# Altium footprint library Connectors.PcbLib: 21 footprints (part 1 of 2)
Each footprint in its own frame and in the unit in brackets; x right, y up, seen from the top. Pads: shape width x height; smd on the part's side, far side on the other; paste and mask are expansions set on the pad; w line width, h text height; cw(c..) or ccw(c..) is an arc to the next point about the centre after c.
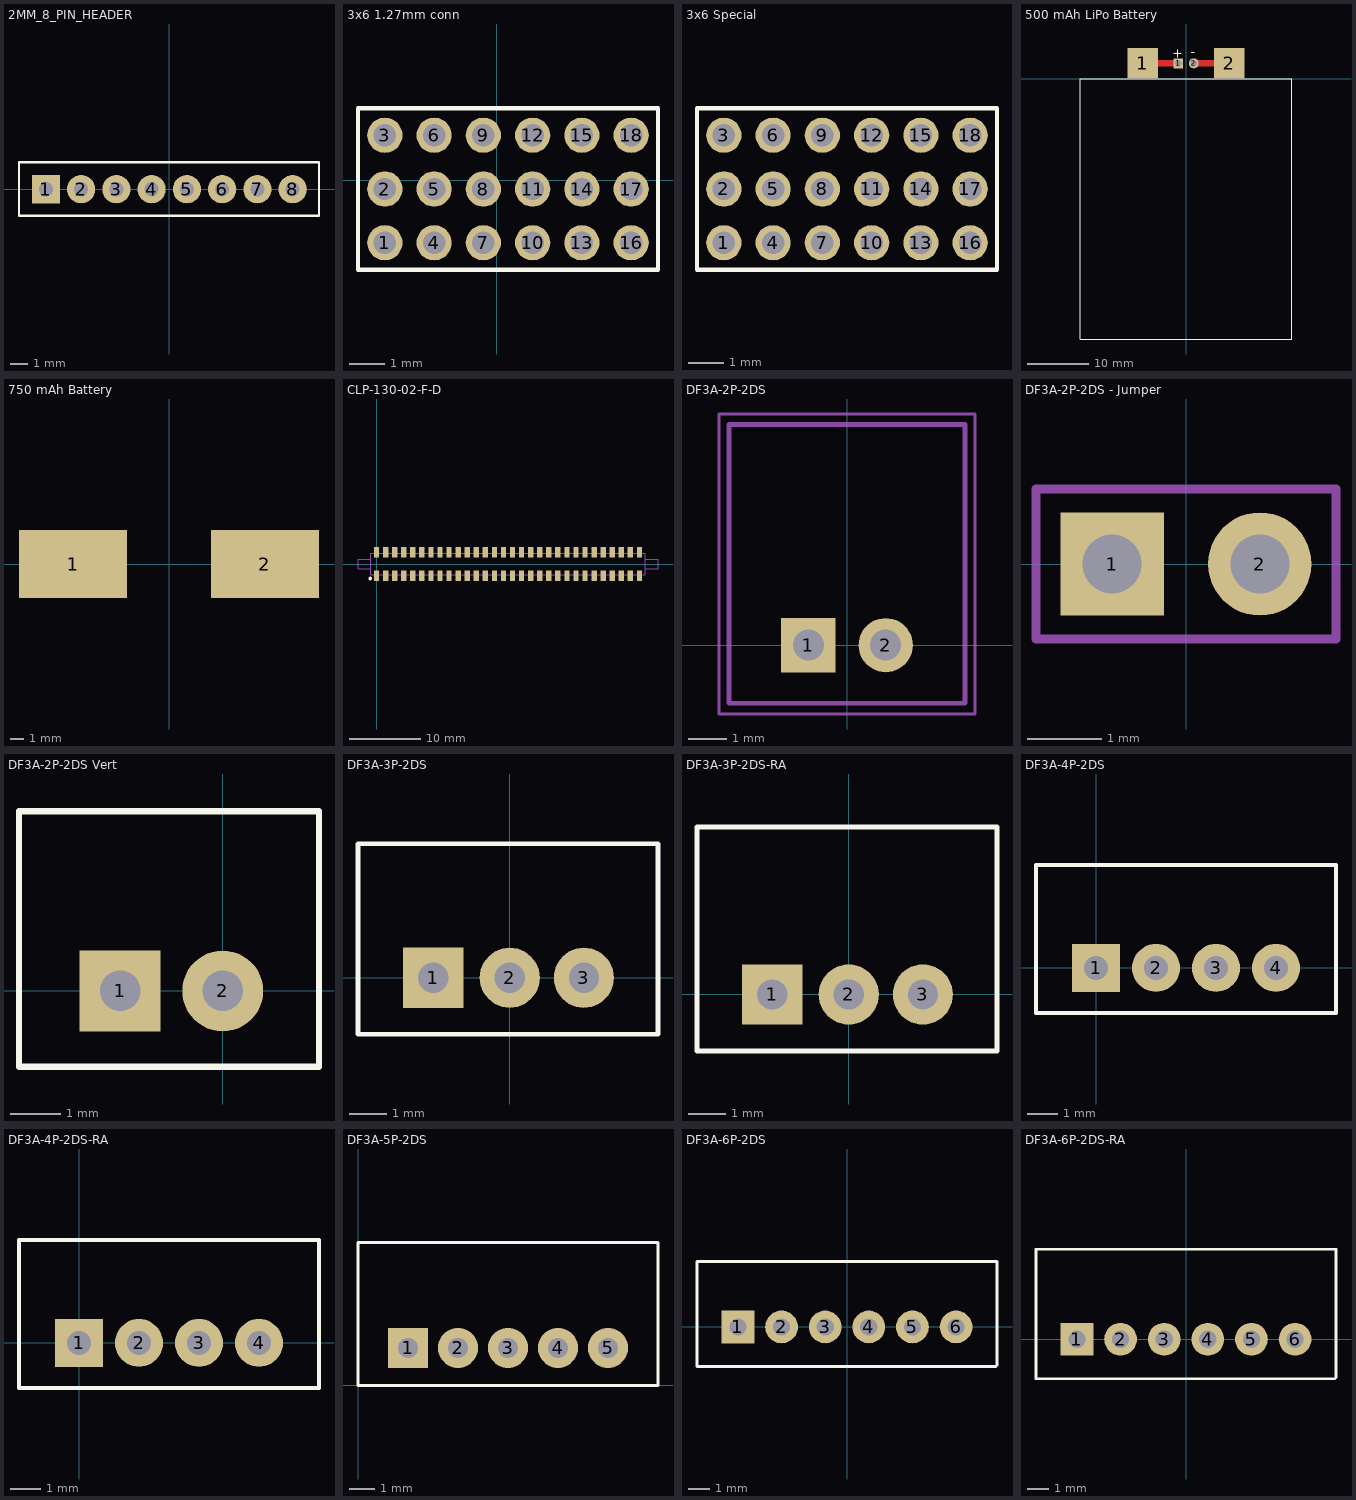
[diagram p0: the footprints below, top view; thin cyan lines are the x and y axes]

## 2MM_8_PIN_HEADER [mm]
pads (8):
  rect 1.6x1.6 hole 0.8: 1(-6.985,0)
  round 1.6 hole 0.8: 2(-4.985,0) 3(-2.985,0) 4(-0.985,0) 5(1.015,0) 6(3.015,0) 7(5.015,0) 8(7.015,0)
Top Overlay:
  lines w0.127: -8.509,-1.5 -8.509,1.524 8.509,1.524 8.509,-1.5 -8.509,-1.5

## 3x6 1.27mm conn [mm]
pads (18):
  round 1 hole 0.635: 1(-3.175,-1.778) 2(-3.175,-0.254) 3(-3.175,1.27) 4(-1.778,-1.778) 5(-1.778,-0.254) 6(-1.778,1.27) 7(-0.381,-1.778) 8(-0.381,-0.254) 9(-0.381,1.27) 10(1.016,-1.778) 11(1.016,-0.254) 12(1.016,1.27) 13(2.413,-1.778) 14(2.413,-0.254) 15(2.413,1.27) 16(3.81,-1.778) 17(3.81,-0.254) 18(3.81,1.27)
Top Overlay:
  lines w0.127: -3.937,-2.54 4.572,-2.54 4.572,2.032 -3.937,2.032 -3.937,-2.54

## 3x6 Special [mm]
pads (18):
  round 1 hole 0.635: 1(-1266.825,-1267.333) 2(-1266.825,-1265.809) 3(-1266.825,-1264.285) 4(-1265.428,-1267.333) 5(-1265.428,-1265.809) 6(-1265.428,-1264.285) 7(-1264.031,-1267.333) 8(-1264.031,-1265.809) 9(-1264.031,-1264.285) 10(-1262.634,-1267.333) 11(-1262.634,-1265.809) 12(-1262.634,-1264.285) 13(-1261.237,-1267.333) 14(-1261.237,-1265.809) 15(-1261.237,-1264.285) 16(-1259.84,-1267.333) 17(-1259.84,-1265.809) 18(-1259.84,-1264.285)
Top Overlay:
  lines w0.127: -1267.587,-1268.095 -1259.078,-1268.095 -1259.078,-1263.523 -1267.587,-1263.523 -1267.587,-1268.095

## 500 mAh LiPo Battery [mm] "500 mAh Battery with Tab Leads"
height 4.4
pads (4):
  rect 5x5 smd: 1(-7.1,2.5) 2(7.1,2.5)
  rect 1.626x1.626 hole 1.016: 1(-1.27,2.5)
  round 1.626 hole 1.016: 2(1.27,2.5)
Top Layer:
  lines w1.016: -5.755,2.5 -1.27,2.5 ; 1.27,2.5 5.675,2.5
Top Overlay:
  lines w0.127: -17.272,-42.545 17.272,-42.545 17.272,0 -17.272,0 -17.272,-42.545
  text "-" at 0.762,3.683 h1.52
  text "+" at -2.032,4.953 h1.52
3D body: height 4.4, standoff 0, extent -17.25,-2.5 17.25,0
3D body: height 4.4, standoff 0, extent -17.25,-42.5 17.25,-2.5

## 750 mAh Battery [mm] "603048-10C"
height 6.1
pads (2):
  rect 8x5 smd: 1(-7.1,0) 2(7.1,0)
3D body: height 6.1, standoff 0, extent -15.25,-54.5 15.25,-4.5
3D body: height 6.1, standoff 0, extent -15.25,-4.5 15.25,-2.5

## CLP-130-02-F-D [mm] "60 pin, Surface Mount, Vertical, Female Socket, 1.27mm Pitch"
height 2.28
pads (60):
  rect 0.74x1.47 smd: 1(0,-1.615) 2(0,1.615) 3(1.27,-1.615) 4(1.27,1.615) 5(2.54,-1.615) 6(2.54,1.615) 7(3.81,-1.615) 8(3.81,1.615) 9(5.08,-1.615) 10(5.08,1.615) 11(6.35,-1.615) 12(6.35,1.615) 13(7.62,-1.615) 14(7.62,1.615) 15(8.89,-1.615) 16(8.89,1.615) 17(10.16,-1.615) 18(10.16,1.615) 19(11.43,-1.615) 20(11.43,1.615) 21(12.7,-1.615) 22(12.7,1.615) 23(13.97,-1.615) 24(13.97,1.615) 25(15.24,-1.615) 26(15.24,1.615) 27(16.51,-1.615) 28(16.51,1.615) 29(17.78,-1.615) 30(17.78,1.615) 31(19.05,-1.615) 32(19.05,1.615) 33(20.32,-1.615) 34(20.32,1.615) 35(21.59,-1.615) 36(21.59,1.615) 37(22.86,-1.615) 38(22.86,1.615) 39(24.13,-1.615) 40(24.13,1.615) 41(25.4,-1.615) 42(25.4,1.615) 43(26.67,-1.615) 44(26.67,1.615) 45(27.94,-1.615) 46(27.94,1.615) 47(29.21,-1.615) 48(29.21,1.615) 49(30.48,-1.615) 50(30.48,1.615) 51(31.75,-1.615) 52(31.75,1.615) 53(33.02,-1.615) 54(33.02,1.615) 55(34.29,-1.615) 56(34.29,1.615) 57(35.56,-1.615) 58(35.56,1.615) 59(36.83,-1.615) 60(36.83,1.615)
Top Overlay:
  circle w0.254: c-0.889,-2.032 r0.127
Mechanical 1:
  lines w0.127: -0.8,-0.65 -2.6,-0.65 -2.6,0.65 -0.8,0.65 ; 37.63,-0.65 39.43,-0.65 39.43,0.65 37.63,0.65 ; -0.785,-1.51 37.615,-1.51 37.615,1.51 -0.785,1.51 -0.785,-1.51
3D body: height 4.7, standoff 0, extent -0.785,-1.51 37.615,1.51
3D body: height 2.8, standoff 0, extent 37.63,-0.65 39.43,0.65
3D body: height 2.8, standoff 0, extent -2.6,-0.65 -0.8,0.65

## DF3A-2P-2DS [mm] "Two terminal, Right Angle Connector"
height 5
pads (2):
  rect 1.4x1.4 hole 0.8: 1(-1,0)
  round 1.4 hole 0.8: 2(1,0)
Mechanical 1:
  lines w0.127: -3.048,-1.5 -3.048,5.7 3.048,5.7 3.048,-1.5 -3.048,-1.5
Mechanical 15:
  lines w0.076: -3.302,-1.778 -3.302,5.969 3.302,5.969 3.302,-1.778 -3.302,-1.778
3D body: height 5, standoff 0, extent -3.048,-1.5 3.048,5.7

## DF3A-2P-2DS - Jumper [mm] "2mm spacing jumper"
pads (2):
  rect 1.4x1.4 hole 0.8: 1(-1,0)
  round 1.4 hole 0.8: 2(1,0)
Mechanical 1:
  lines w0.127: -2.032,-1.016 -2.032,1.016 2.032,1.016 2.032,-1.016 -2.032,-1.016
3D body: height 5, standoff 0, extent -2.032,-1.016 2.032,1.016

## DF3A-2P-2DS Vert [mm] "Two terminal, Vertical Connector"
height 5
pads (2):
  rect 1.6x1.6 hole 0.8: 1(-2.032,0)
  round 1.6 hole 0.8: 2(0,0)
Top Overlay:
  lines w0.127: -4.032,-1.5 -4.032,3.556 1.905,3.556 1.905,-1.5 -4.032,-1.5
3D body: height 5, standoff 0, extent -4.064,-1.524 1.905,3.556

## DF3A-3P-2DS [mm]
height 5
pads (3):
  rect 1.6x1.6 hole 0.8: 1(-2.032,0)
  round 1.6 hole 0.8: 2(0,0) 3(1.968,0)
Top Overlay:
  lines w0.127: -4.032,-1.5 3.937,-1.5 3.937,3.556 -4.032,3.556 -4.032,-1.5
3D body: height 5, standoff 0, extent -4.064,-1.524 3.937,3.556

## DF3A-3P-2DS-RA [mm]
height 5
pads (3):
  rect 1.6x1.6 hole 0.8: 1(-2.032,0)
  round 1.6 hole 0.8: 2(0,0) 3(1.968,0)
Top Overlay:
  lines w0.127: -4.032,-1.5 -4.032,4.445 3.937,4.445 3.937,-1.5 -4.032,-1.5
3D body: height 5, standoff 0, extent -4.064,-1.524 3.937,4.445

## DF3A-4P-2DS [mm] "Hirose 4 Pin"
height 5
pads (4):
  rect 1.6x1.6 hole 0.8: 1(0,0)
  round 1.6 hole 0.8: 2(2,0) 3(4,0) 4(6,0)
Top Overlay:
  lines w0.127: -2,-1.5 8,-1.5 8,3.429 -2,3.429 -2,-1.5
3D body: height 5, standoff 0, extent -2.032,-1.524 8.001,3.429

## DF3A-4P-2DS-RA [mm] "Hirose 4 Pin, Right Angle Connector"
height 5
pads (4):
  rect 1.6x1.6 hole 0.8: 1(0,0)
  round 1.6 hole 0.8: 2(2,0) 3(4,0) 4(6,0)
Top Overlay:
  lines w0.127: -2,-1.5 8,-1.5 8,3.429 -2,3.429 -2,-1.5
3D body: height 5, standoff 0, extent -2.032,-1.524 8.001,3.429

## DF3A-5P-2DS [mm] "5 Pin, Right Angle Connector"
height 5
pads (5):
  rect 1.6x1.6 hole 0.8: 1(2,1.5)
  round 1.6 hole 0.8: 2(4,1.5) 3(6,1.5) 4(8,1.5) 5(10,1.5)
Top Overlay:
  lines w0.127: 0,0 0,5.715 12,5.715 12,0 0,0

## DF3A-6P-2DS [mil]
pads (6):
  rect 60x60 hole 31.5: 1(-200,0)
  round 60 hole 31.5: 2(-120,0) 3(-40,0) 4(40,0) 5(120,0) 6(200,0)
Top Overlay:
  lines w5: -275,-72.5 272.5,-72.5 275,-70 275,120 -275,120 -275,-72.5
3D body: height 196.85, standoff 0, extent -275,-75 276.6,120

## DF3A-6P-2DS-RA [mil]
pads (6):
  rect 60x60 hole 31.5: 1(-200,0)
  round 60 hole 31.5: 2(-120,0) 3(-40,0) 4(40,0) 5(120,0) 6(200,0)
Top Overlay:
  lines w5: -275,-72.5 272.5,-72.5 275,-70 275,165 -275,165 -275,-72.5
3D body: height 196.85, standoff 0, extent -275,-75 276.96,165